# Altium schematic symbol library Audio.SchLib: 84 symbols (part 2 of 2)
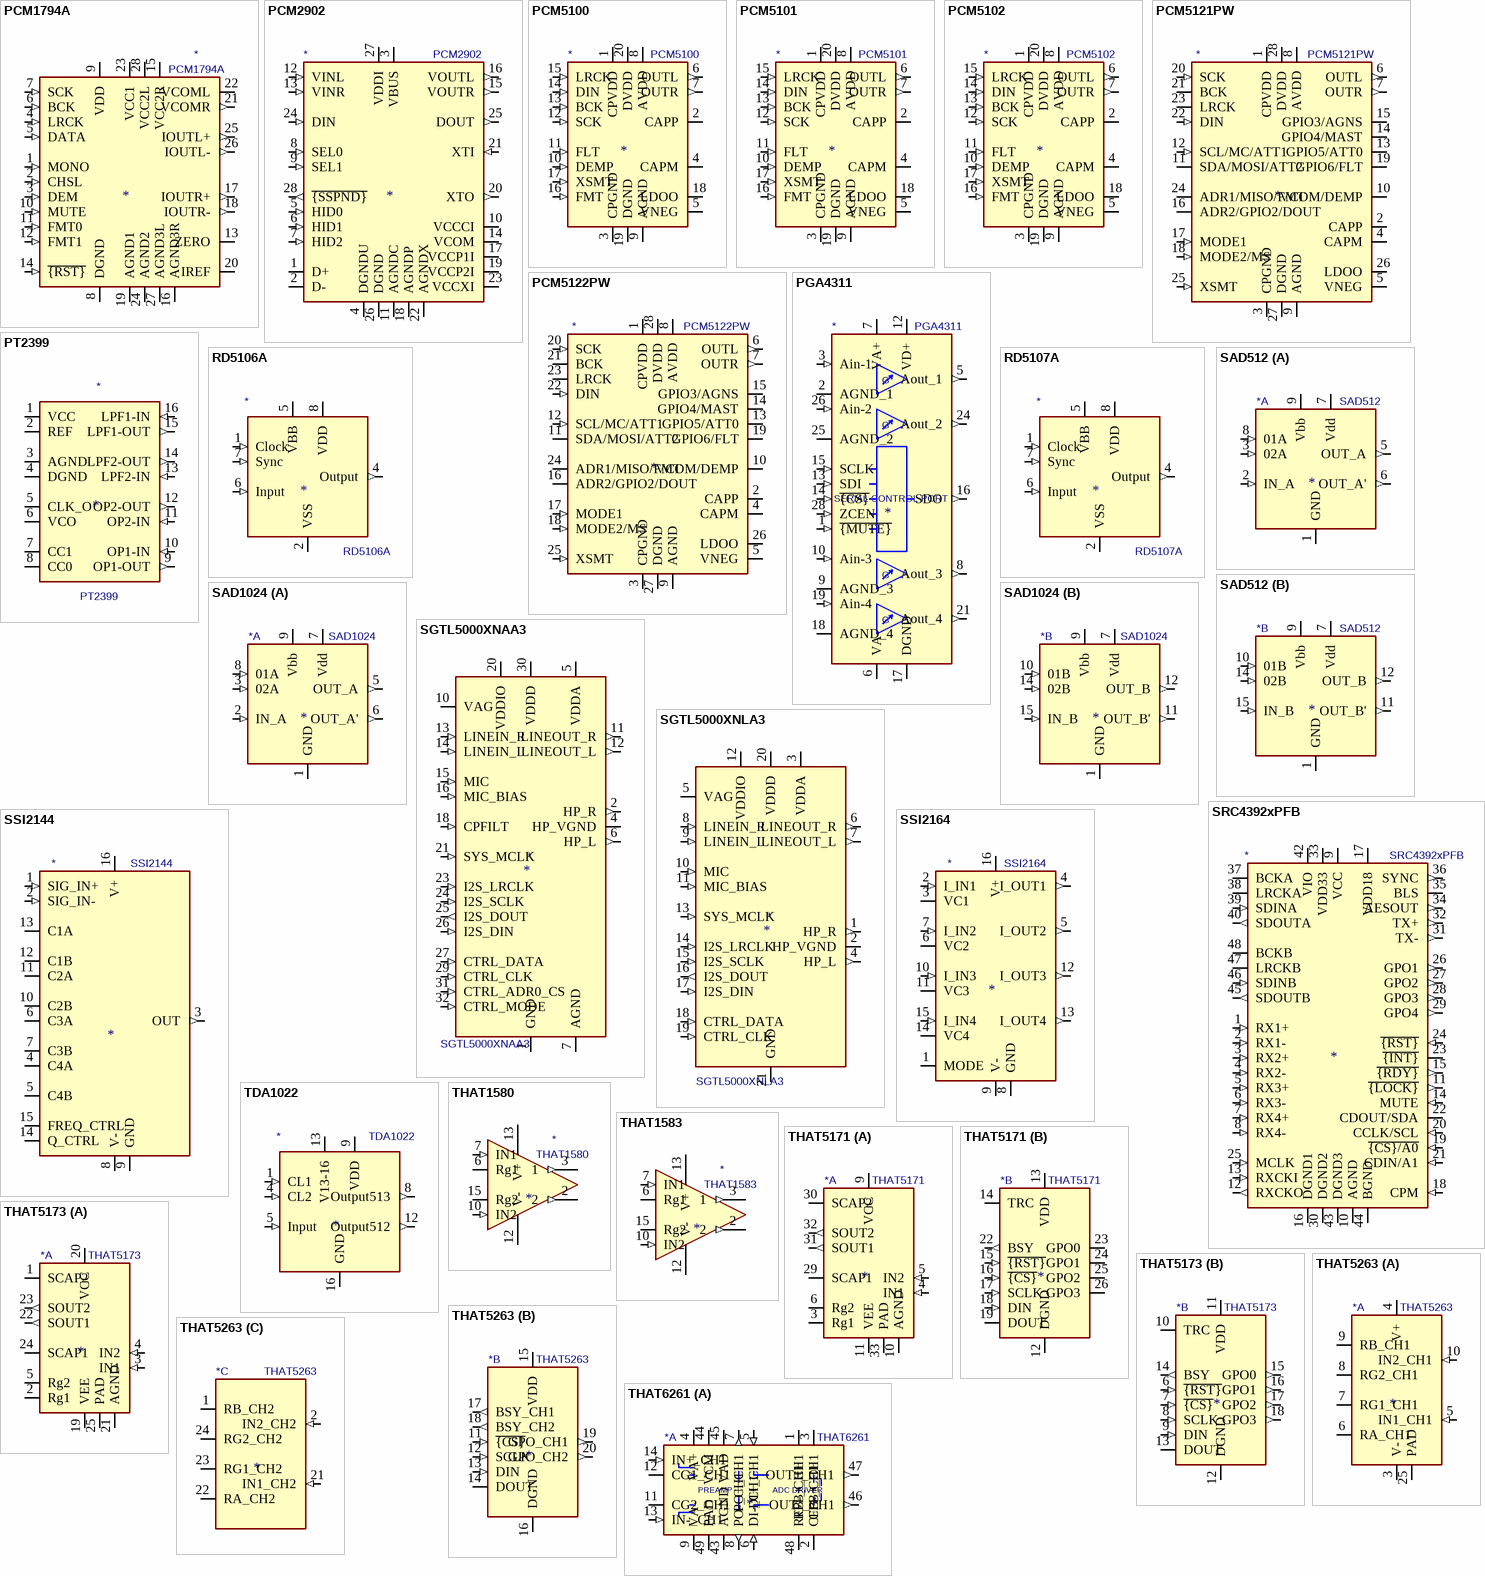
[diagram p4: symbols PCM1794A to THAT6261]

## THAT5173
designator *  value THAT5173
ki_keywords: mic preamp gain controller; ki_description: Audio Preamplifier Digital Controller IC, QFN-24; ki_fp_filters: QFN*1EP*5x5mm*P0.65mm*; Footprint: Package_DFN_QFN:QFN-24-1EP_5x5mm_P0.65mm_EP3.4x3.4mm; Supplier: http://www.thatcorp.com/datashts/THAT_5173_Datasheet.pdf
footprint QFN-24-1EP_5x5mm_P0.65mm_EP3.4x3.4mm
part A pins: 1 SCAP2, 2 Rg1, 3 IN1 (in), 4 IN2 (in), 5 Rg2, 19 VEE (power), 20 VCC (power), 21 AGND (power), 22 SOUT1 (out), 23 SOUT2 (out), 24 SCAP1, 25 PAD
part B pins: 6 ~{{RST}} (in), 7 ~{{CS}} (in), 8 SCLK (in), 9 DIN (in), 10 TRC, 11 VDD (power), 12 DGND (power), 13 DOUT (hiz), 14 BSY (out), 15 GPO0 (out), 16 GPO1 (out), 17 GPO2 (out), 18 GPO3 (out)

## THAT5263
designator *  value THAT5263
ki_keywords: dual mic preamp gain controller; ki_description: 2-Channel Digital Preamplifier Controller IC, QFN-24; ki_fp_filters: QFN*1EP*5x5mm*P0.65mm*; Footprint: Package_DFN_QFN:QFN-24-1EP_5x5mm_P0.65mm_EP3.4x3.4mm; Supplier: http://www.thatcorp.com/datashts/THAT_5263_Datasheet.pdf
footprint QFN-24-1EP_5x5mm_P0.65mm_EP3.4x3.4mm
part A pins: 3 V- (power), 4 V+ (power), 5 IN1_CH1 (in), 6 RA_CH1, 7 RG1_CH1, 8 RG2_CH1, 9 RB_CH1, 10 IN2_CH1 (in), 25 PAD
part B pins: 11 ~{{CS}} (in), 12 SCLK (in), 13 DIN (in), 14 DOUT (hiz), 15 VDD (power), 16 DGND (power), 17 BSY_CH1 (out), 18 BSY_CH2 (out), 19 GPO_CH1 (out), 20 GPO_CH2 (out)
part C pins: 1 RB_CH2, 2 IN2_CH2 (in), 21 IN1_CH2 (in), 22 RA_CH2, 23 RG1_CH2, 24 RG2_CH2

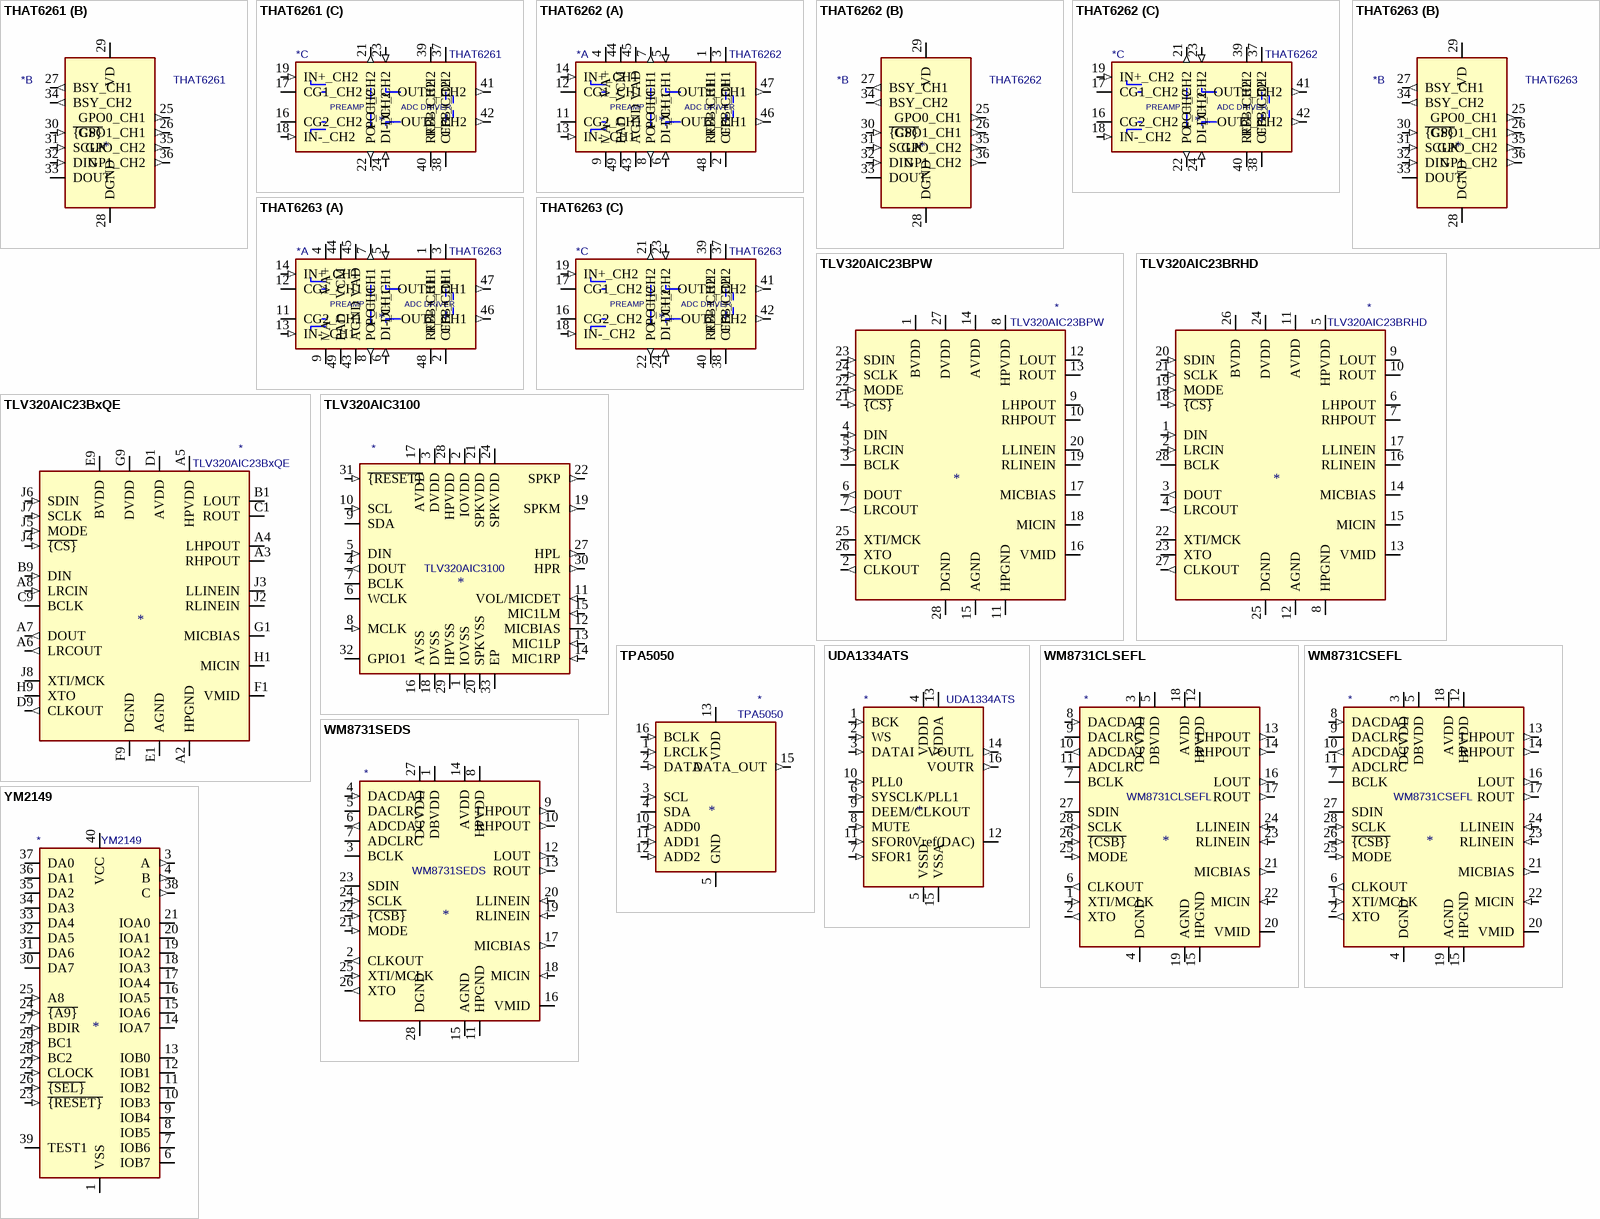
[diagram p3: symbols THAT6261 to YM2149]

## THAT6261
designator *  value THAT6261
ki_keywords: dual mic preamp; ki_description: 2-Channel Low-Noise Programmable-Gain Preamplifier - ADC Driver IC, 1dB Step, QFN-48; ki_fp_filters: QFN*1EP*7x7mm*P0.5mm*; Footprint: Package_DFN_QFN:QFN-48-1EP_7x7mm_P0.5mm_EP5.45x5.45mm; Supplier: http://www.thatcorp.com/datashts/THAT_626x_Datasheet.pdf
footprint QFN-48-1EP_7x7mm_P0.5mm_EP5.45x5.45mm
part A pins: 1 RFB+_CH1, 2 CFB-_CH1, 3 CFB+_CH1, 4 VA+ (power), 5 DI+_CH1 (in), 6 DI-_CH1 (in), 7 PO+_CH1 (out), 8 PO-_CH1 (out), 9 VA- (power), 10 VA+ hidden, 11 CG2_CH1, 12 CG1_CH1, 13 IN-_CH1 (in), 14 IN+_CH1 (in), 15 VA- hidden, 20 VA- hidden, 43 AGND (power), 44 VCM (power), 45 VAD (power), 46 OUT-_CH1 (out), 47 OUT+_CH1 (out), 48 RFB-_CH1, 49 PAD
part B pins: 25 GPO0_CH1 (out), 26 GPO1_CH1 (out), 27 BSY_CH1 (out), 28 DGND (power), 29 VD (power), 30 ~{{CS}} (in), 31 SCLK (in), 32 DIN (in), 33 DOUT (hiz), 34 BSY_CH2 (out), 35 GPO_CH2 (out), 36 GP1_CH2 (out)
part C pins: 16 CG2_CH2, 17 CG1_CH2, 18 IN-_CH2 (in), 19 IN+_CH2 (in), 21 PO+_CH2 (out), 22 PO-_CH2 (out), 23 DI+_CH2 (in), 24 DI-_CH2 (in), 37 CFB+_CH2, 38 CFB-_CH2, 39 RFB+_CH2, 40 RFB-_CH2, 41 OUT+_CH2 (out), 42 OUT-_CH2 (out)
part A text: PREAMP; ADC DRIVER
part C text: PREAMP; ADC DRIVER

## THAT6262
designator *  value THAT6262
ki_keywords: dual mic preamp; ki_description: 2-Channel Low-Noise Programmable-Gain Preamplifier - ADC Driver IC, 2dB Step, QFN-48; ki_fp_filters: QFN*1EP*7x7mm*P0.5mm*; Footprint: Package_DFN_QFN:QFN-48-1EP_7x7mm_P0.5mm_EP5.45x5.45mm; Supplier: http://www.thatcorp.com/datashts/THAT_626x_Datasheet.pdf
footprint QFN-48-1EP_7x7mm_P0.5mm_EP5.45x5.45mm
part A pins: 1 RFB+_CH1, 2 CFB-_CH1, 3 CFB+_CH1, 4 VA+ (power), 5 DI+_CH1 (in), 6 DI-_CH1 (in), 7 PO+_CH1 (out), 8 PO-_CH1 (out), 9 VA- (power), 10 VA+ hidden, 11 CG2_CH1, 12 CG1_CH1, 13 IN-_CH1 (in), 14 IN+_CH1 (in), 15 VA- hidden, 20 VA- hidden, 43 AGND (power), 44 VCM (power), 45 VAD (power), 46 OUT-_CH1 (out), 47 OUT+_CH1 (out), 48 RFB-_CH1, 49 PAD
part B pins: 25 GPO0_CH1 (out), 26 GPO1_CH1 (out), 27 BSY_CH1 (out), 28 DGND (power), 29 VD (power), 30 ~{{CS}} (in), 31 SCLK (in), 32 DIN (in), 33 DOUT (hiz), 34 BSY_CH2 (out), 35 GPO_CH2 (out), 36 GP1_CH2 (out)
part C pins: 16 CG2_CH2, 17 CG1_CH2, 18 IN-_CH2 (in), 19 IN+_CH2 (in), 21 PO+_CH2 (out), 22 PO-_CH2 (out), 23 DI+_CH2 (in), 24 DI-_CH2 (in), 37 CFB+_CH2, 38 CFB-_CH2, 39 RFB+_CH2, 40 RFB-_CH2, 41 OUT+_CH2 (out), 42 OUT-_CH2 (out)
part A text: PREAMP; ADC DRIVER
part C text: PREAMP; ADC DRIVER

## THAT6263
designator *  value THAT6263
ki_keywords: dual mic preamp; ki_description: 2-Channel Low-Noise Programmable-Gain Preamplifier - ADC Driver IC, 3dB Step, QFN-48; ki_fp_filters: QFN*1EP*7x7mm*P0.5mm*; Footprint: Package_DFN_QFN:QFN-48-1EP_7x7mm_P0.5mm_EP5.45x5.45mm; Supplier: http://www.thatcorp.com/datashts/THAT_626x_Datasheet.pdf
footprint QFN-48-1EP_7x7mm_P0.5mm_EP5.45x5.45mm
part A pins: 1 RFB+_CH1, 2 CFB-_CH1, 3 CFB+_CH1, 4 VA+ (power), 5 DI+_CH1 (in), 6 DI-_CH1 (in), 7 PO+_CH1 (out), 8 PO-_CH1 (out), 9 VA- (power), 10 VA+ hidden, 11 CG2_CH1, 12 CG1_CH1, 13 IN-_CH1 (in), 14 IN+_CH1 (in), 15 VA- hidden, 20 VA- hidden, 43 AGND (power), 44 VCM (power), 45 VAD (power), 46 OUT-_CH1 (out), 47 OUT+_CH1 (out), 48 RFB-_CH1, 49 PAD
part B pins: 25 GPO0_CH1 (out), 26 GPO1_CH1 (out), 27 BSY_CH1 (out), 28 DGND (power), 29 VD (power), 30 ~{{CS}} (in), 31 SCLK (in), 32 DIN (in), 33 DOUT (hiz), 34 BSY_CH2 (out), 35 GPO_CH2 (out), 36 GP1_CH2 (out)
part C pins: 16 CG2_CH2, 17 CG1_CH2, 18 IN-_CH2 (in), 19 IN+_CH2 (in), 21 PO+_CH2 (out), 22 PO-_CH2 (out), 23 DI+_CH2 (in), 24 DI-_CH2 (in), 37 CFB+_CH2, 38 CFB-_CH2, 39 RFB+_CH2, 40 RFB-_CH2, 41 OUT+_CH2 (out), 42 OUT-_CH2 (out)
part A text: PREAMP; ADC DRIVER
part C text: PREAMP; ADC DRIVER

## TLV320AIC23BPW
designator *  value TLV320AIC23BPW
ki_keywords: audio codec 2ch 96kHz headphone amplifier; ki_description: Stero Audio CODEC, 8- to 96-kHz, With Integrated Headphone Amplifier, TSSOP-28; ki_fp_filters: TSSOP*4.4x9.7mm*P0.65mm*; Footprint: Package_SO:TSSOP-28_4.4x9.7mm_P0.65mm; Supplier: http://www.ti.com/lit/ds/symlink/tlv320aic23b.pdf
footprint TSSOP-28_4.4x9.7mm_P0.65mm
pins: 1 BVDD (power), 2 CLKOUT (out), 3 BCLK (io), 4 DIN (in), 5 LRCIN (in), 6 DOUT (out), 7 LRCOUT (out), 8 HPVDD (power), 9 LHPOUT, 10 RHPOUT, 11 HPGND (power), 12 LOUT, 13 ROUT, 14 AVDD (power), 15 AGND (power), 16 VMID, 17 MICBIAS, 18 MICIN, 19 RLINEIN, 20 LLINEIN, 21 ~{{CS}} (in), 22 MODE (in), 23 SDIN (in), 24 SCLK (in), 25 XTI/MCK, 26 XTO, 27 DVDD (power), 28 DGND (power)

## TLV320AIC23BRHD
designator *  value TLV320AIC23BRHD
ki_keywords: audio codec 2ch 96kHz headphone amplifier; ki_description: Stero Audio CODEC, 8- to 96-kHz, With Integrated Headphone Amplifier, QFN-28; ki_fp_filters: QFN*5x5mm*P0.5mm*; Footprint: Package_DFN_QFN:QFN-28-1EP_5x5mm_P0.5mm_EP3.35x3.35mm; Supplier: http://www.ti.com/lit/ds/symlink/tlv320aic23b.pdf
footprint QFN-28-1EP_5x5mm_P0.5mm_EP3.35x3.35mm
pins: 1 DIN (in), 2 LRCIN (in), 3 DOUT (out), 4 LRCOUT (out), 5 HPVDD (power), 6 LHPOUT, 7 RHPOUT, 8 HPGND (power), 9 LOUT, 10 ROUT, 11 AVDD (power), 12 AGND (power), 13 VMID, 14 MICBIAS, 15 MICIN, 16 RLINEIN, 17 LLINEIN, 18 ~{{CS}} (in), 19 MODE (in), 20 SDIN (in), 21 SCLK (in), 22 XTI/MCK, 23 XTO, 24 DVDD (power), 25 DGND (power), 26 BVDD (power), 27 CLKOUT (out), 28 BCLK (io), 29 AGND hidden

## TLV320AIC23BxQE
designator *  value TLV320AIC23BxQE
ki_keywords: audio codec 2ch 96kHz headphone amplifier; ki_description: Stero Audio CODEC, 8- to 96-kHz, With Integrated Headphone Amplifier, BGA-32; ki_fp_filters: *MicroStar*Junior*BGA*5*x5*mm*P0.5mm*; Footprint: Package_BGA:Texas_MicroStar_Junior_BGA-80_5.0x5.0mm_Layout9x9_P0.5mm; Supplier: http://www.ti.com/lit/ds/symlink/tlv320aic23b.pdf
footprint Texas_MicroStar_Junior_BGA-80_5.0x5.0mm_Layout9x9_P0.5mm
pins: A1 NC (in) hidden, A2 HPGND (power), A3 RHPOUT, A4 LHPOUT, A5 HPVDD (power), A6 LRCOUT (out), A7 DOUT (out), A8 LRCIN (in), A9 NC (in) hidden, B1 LOUT, B2 NC (in) hidden, B3 NC (in) hidden, B4 NC (in) hidden, B5 NC (in) hidden, B6 NC (in) hidden, B7 NC (in) hidden, B8 NC (in) hidden, B9 DIN (in), C1 ROUT, C2 NC (in) hidden, C4 NC (in) hidden, C5 NC (in) hidden, C6 NC (in) hidden, C7 NC (in) hidden, C8 NC (in) hidden, C9 BCLK (io), D1 AVDD (power), D2 NC (in) hidden, D3 NC (in) hidden, D4 NC (in) hidden, D5 NC (in) hidden, D6 NC (in) hidden, D7 NC (in) hidden, D8 NC (in) hidden, D9 CLKOUT (out), E1 AGND (power), E2 NC (in) hidden, E3 NC (in) hidden, E4 NC (in) hidden, E5 NC (in) hidden, E6 NC (in) hidden, E7 NC (in) hidden, E8 NC (in) hidden, E9 BVDD (power), F1 VMID, F2 NC (in) hidden, F3 NC (in) hidden, F4 NC (in) hidden, F5 NC (in) hidden, F6 NC (in) hidden, F7 NC (in) hidden, F8 NC (in) hidden, F9 DGND (power), G1 MICBIAS, G2 NC (in) hidden, G3 NC (in) hidden, G4 NC (in) hidden, G5 NC (in) hidden, G6 NC (in) hidden, G7 NC (in) hidden, G8 NC (in) hidden, G9 DVDD (power), H1 MICIN, H2 NC (in) hidden, H3 NC (in) hidden, H4 NC (in) hidden, H5 NC (in) hidden, H6 NC (in) hidden, H7 NC (in) hidden, H8 NC (in) hidden, H9 XTO, J1 NC (in) hidden, J2 RLINEIN, J3 LLINEIN, J4 ~{{CS}} (in), J5 MODE (in), J6 SDIN (in), J7 SCLK (in), J8 XTI/MCK, J9 NC (in) hidden

## TLV320AIC3100
designator *  value TLV320AIC3100
ki_keywords: audio codec 2ch 192kHz class-d amplifier; ki_description: Low Power Audio Codec with Audio Processing and Mono Class‑D Amplifier, VQFN-32; ki_fp_filters: VQFN*1EP*5x5mm*P0.5mm*; Footprint: Package_DFN_QFN:VQFN-32-1EP_5x5mm_P0.5mm_EP3.5x3.5mm; Supplier: http://www.ti.com/lit/ds/symlink/tlv320aic3100.pdf
footprint VQFN-32-1EP_5x5mm_P0.5mm_EP3.5x3.5mm
pins: 1 IOVSS (power), 2 IOVDD (power), 3 DVDD (power), 4 DOUT (out), 5 DIN (in), 6 WCLK (io), 7 BCLK (io), 8 MCLK (in), 9 SDA (io), 10 SCL (in), 11 VOL/MICDET (in), 12 MICBIAS (power), 13 MIC1LP (in), 14 MIC1RP (in), 15 MIC1LM (in), 16 AVSS (power), 17 AVDD (power), 18 DVSS (power), 19 SPKM (out), 20 SPKVSS (power), 21 SPKVDD (power), 22 SPKP (out), 23 SPKM hidden, 24 SPKVDD (power), 25 SPKVSS hidden, 26 SPKP hidden, 27 HPL (out), 28 HPVDD (power), 29 HPVSS (power), 30 HPR (out), 31 ~{{RESET}} (in), 32 GPIO1 (io), 33 EP (power)

## TPA5050
designator *  value TPA5050
ki_keywords: audio delay; ki_description: Stereo Digital Audio Lip-Sync Delay Processor With I2C Control, QFN-16; ki_fp_filters: Texas?S?PVQFN?N*; Footprint: Package_DFN_QFN:Texas_S-PVQFN-N16_EP2.7x2.7mm_ThermalVias; Supplier: http://www.ti.com/lit/ds/symlink/tpa5050.pdf
footprint Texas_S-PVQFN-N16_EP2.7x2.7mm_ThermalVias
pins: 1 LRCLK (in), 2 DATA (in), 3 SCL (in), 4 SDA (io), 5 GND (power), 6 GND hidden, 7 GND hidden, 8 GND hidden, 9 GND hidden, 10 ADD0 (in), 11 ADD1 (in), 12 ADD2 (in), 13 VDD (power), 14 GND hidden, 15 DATA_OUT (out), 16 BCLK (in), 17 GND hidden

## UDA1334ATS
designator *  value UDA1334ATS
ki_keywords: audio dac 2ch 24bit 96kHz; ki_description: Low Power Audio DAC with PLL, SSOP-16; ki_fp_filters: SSOP*4.4x5.2mm*P0.65mm*; Footprint: Package_SO:SSOP-16_4.4x5.2mm_P0.65mm; Supplier: http://www.nxp.com/docs/en/data-sheet/UDA1334ATS.pdf
footprint SSOP-16_4.4x5.2mm_P0.65mm
pins: 1 BCK (in), 2 WS (in), 3 DATAI (in), 4 VDDD (power), 5 VSSD (power), 6 SYSCLK/PLL1 (in), 7 SFOR1 (in), 8 MUTE (in), 9 DEEM/CLKOUT (io), 10 PLL0 (in), 11 SFOR0 (in), 12 Vref(DAC), 13 VDDA (power), 14 VOUTL (out), 15 VSSA (power), 16 VOUTR (out)

## WM8731CLSEFL
designator *  value WM8731CLSEFL
ki_keywords: wolfson stereo audio codec adc dac headphone; ki_description: Portable Internet Audio CODEC with Headphone Driver and Programmable Sample Rates, QFN-28; ki_fp_filters: QFN*1EP*5x5mm*P0.5mm*; Footprint: Package_DFN_QFN:QFN-28-1EP_5x5mm_P0.5mm_EP3.35x3.35mm; Supplier: https://statics.cirrus.com/pubs/proDatasheet/WM8731_v4.9.pdf
footprint QFN-28-1EP_5x5mm_P0.5mm_EP3.35x3.35mm
pins: 1 XTI/MCLK (in), 2 XTO (out), 3 DCVDD (power), 4 DGND (power), 5 DBVDD (power), 6 CLKOUT (out), 7 BCLK (io), 8 DACDAT (in), 9 DACLRC (io), 10 ADCDAT (out), 11 ADCLRC (io), 12 HPVDD (power), 13 LHPOUT (out), 14 RHPOUT (out), 15 HPGND (power), 16 LOUT (out), 17 ROUT (out), 18 AVDD (power), 19 AGND (power), 20 VMID, 21 MICBIAS (out), 22 MICIN (in), 23 RLINEIN (in), 24 LLINEIN (in), 25 MODE (in), 26 ~{{CSB}} (in), 27 SDIN (io), 28 SCLK (in), 29 AGND hidden

## WM8731CSEFL
designator *  value WM8731CSEFL
ki_keywords: wolfson stereo audio codec adc dac headphone; ki_description: Portable Internet Audio CODEC with Headphone Driver and Programmable Sample Rates, QFN-28; ki_fp_filters: QFN*1EP*5x5mm*P0.5mm*; Footprint: Package_DFN_QFN:QFN-28-1EP_5x5mm_P0.5mm_EP3.35x3.35mm; Supplier: https://statics.cirrus.com/pubs/proDatasheet/WM8731_v4.9.pdf
footprint QFN-28-1EP_5x5mm_P0.5mm_EP3.35x3.35mm
pins: 1 XTI/MCLK (in), 2 XTO (out), 3 DCVDD (power), 4 DGND (power), 5 DBVDD (power), 6 CLKOUT (out), 7 BCLK (io), 8 DACDAT (in), 9 DACLRC (io), 10 ADCDAT (out), 11 ADCLRC (io), 12 HPVDD (power), 13 LHPOUT (out), 14 RHPOUT (out), 15 HPGND (power), 16 LOUT (out), 17 ROUT (out), 18 AVDD (power), 19 AGND (power), 20 VMID, 21 MICBIAS (out), 22 MICIN (in), 23 RLINEIN (in), 24 LLINEIN (in), 25 MODE (in), 26 ~{{CSB}} (in), 27 SDIN (io), 28 SCLK (in), 29 AGND hidden

## WM8731SEDS
designator *  value WM8731SEDS
ki_keywords: wolfson stereo audio codec adc dac headphone; ki_description: Portable Internet Audio CODEC with Headphone Driver and Programmable Sample Rates, SSOP-28; ki_fp_filters: SSOP*5.3x10.2mm*P0.65mm*; Footprint: Package_SO:SSOP-28_5.3x10.2mm_P0.65mm; Supplier: https://statics.cirrus.com/pubs/proDatasheet/WM8731_v4.9.pdf
footprint SSOP-28_5.3x10.2mm_P0.65mm
pins: 1 DBVDD (power), 2 CLKOUT (out), 3 BCLK (io), 4 DACDAT (in), 5 DACLRC (io), 6 ADCDAT (out), 7 ADCLRC (io), 8 HPVDD (power), 9 LHPOUT (out), 10 RHPOUT (out), 11 HPGND (power), 12 LOUT (out), 13 ROUT (out), 14 AVDD (power), 15 AGND (power), 16 VMID, 17 MICBIAS (out), 18 MICIN (in), 19 RLINEIN (in), 20 LLINEIN (in), 21 MODE (in), 22 ~{{CSB}} (in), 23 SDIN (io), 24 SCLK (in), 25 XTI/MCLK (in), 26 XTO (out), 27 DCVDD (power), 28 DGND (power)

## YM2149
designator *  value YM2149
ki_keywords: audio ssg 3ch; ki_description: Software-Controlled Sound Generator, DIP-40; ki_fp_filters: DIP*W15.24mm*; Footprint: Package_DIP:DIP-40_W15.24mm; Supplier: http://www.ym2149.com/ym2149.pdf
footprint DIP-40_W15.24mm
pins: 1 VSS (power), 2 NC (in) hidden, 3 A (out), 4 B (out), 5 NC (in) hidden, 6 IOB7 (io), 7 IOB6 (io), 8 IOB5 (io), 9 IOB4 (io), 10 IOB3 (io), 11 IOB2 (io), 12 IOB1 (io), 13 IOB0 (io), 14 IOA7 (io), 15 IOA6 (io), 16 IOA5 (io), 17 IOA4 (io), 18 IOA3 (io), 19 IOA2 (io), 20 IOA1 (io), 21 IOA0 (io), 22 CLOCK (in), 23 ~{{RESET}} (in), 24 ~{{A9}} (in), 25 A8 (in), 26 ~{{SEL}} (in), 27 BDIR (in), 28 BC2 (in), 29 BC1 (in), 30 DA7 (io), 31 DA6 (io), 32 DA5 (io), 33 DA4 (io), 34 DA3 (io), 35 DA2 (io), 36 DA1 (io), 37 DA0 (io), 38 C (out), 39 TEST1, 40 VCC (power)